# EAGLE library part SPI_TEMP (library madHaddr)
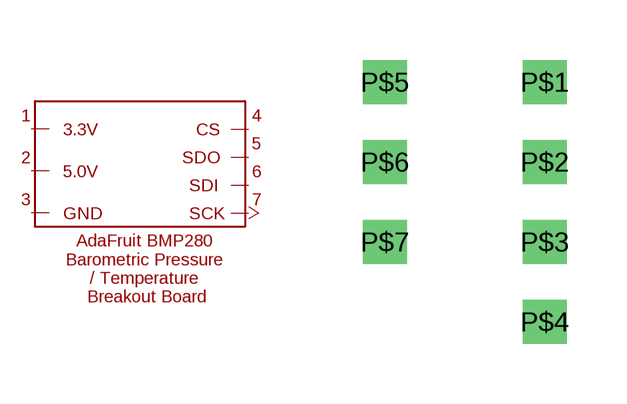
[diagram p2: symbol with the pads of SPI_TEMP; footprint SPI_TEMP]

Designator prefix -

## SPI_TEMP  [SPI_TEMP]
P$1  3.3V
P$2  5.0V
P$3  CS_5V
P$4  GND
P$5  SCK/SCL_5V
P$6  SDI/SDA_5V
P$7  SDO/ADR_3V

## Footprint SPI_TEMP (pad centres in mm)
drill 0.6 square: P$1 2,1; P$2 2,-1; P$3 2,-3; P$4 2,-5; P$5 -2,1; P$6 -2,-1; P$7 -2,-3